# Altium schematic symbol library ICs-MOSFETDrivers.SchLib: 4 symbols
Pins are listed as number, name and electrical type; pins without a type are passive.

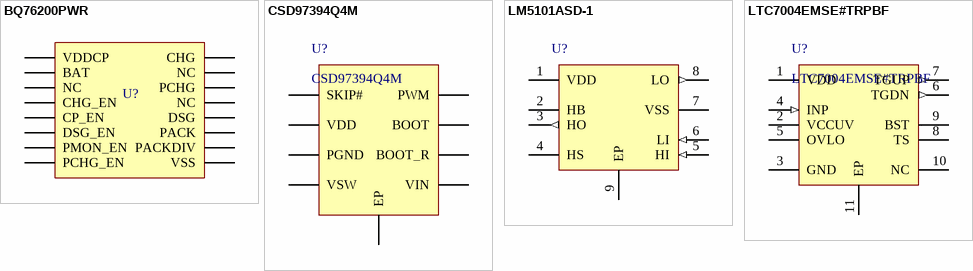
[diagram p0: symbols BQ76200PWR to LTC7004EMSE#TRPBF]

## BQ76200PWR
designator U?  (value not drawn)
Battery Management Fast high side NCH drive; Manufacturer: Texas Instruments; PartNumber: BQ76200PWR; PackageReference: TSSOP-16; Mounting Technology: Surface Mount
footprint TSSOP-16
pins: 1 VDDCP, 2 BAT, 3 NC, 4 CHG_EN, 5 CP_EN, 6 DSG_EN, 7 PMON_EN, 8 PCHG_EN, 9 VSS, 10 PACKDIV, 11 PACK, 12 DSG, 13 NC, 14 PCHG, 15 NC, 16 CHG

## CSD97394Q4M
designator U?
Manufacturer: Texas Instruments; PartNumber: CSD97394Q4M; Mounting Technology: Surface Mount; PackageReference: VSON-CLIP
footprint VSON-CLIP (SON, 18-Leads, Body 4.50x3.50mm, Pitch 0.40mm, Thermal Pad 3.95x1.99mm, IPC Medium Density)
pins: 1 SKIP#, 2 VDD, 3 PGND, 4 VSW, 5 VIN, 6 BOOT_R, 7 BOOT, 8 PWM, 9 EP

## LM5101ASD-1
designator U?
PartNumber: LM5101ASD-1; Manufacturer: Texas Instruments; PackageReference: 8-WSON; PackageDescription: 8-WDFN Exposed Pad; Mounting Technology: Surface Mount
footprint WDFN-8 (SON, 8-Leads, Body 3.00x3.00mm, Pitch 0.65mm, Thermal Pad 2.00x1.47mm, IPC Medium Density)
pins: 1 VDD (power) "Supply. This pin powers input buffers, logic and the low side gate driver output directly and the high side gate driver output through an external diode connected between this pin and BOOST (Pin 6). A low ESR ceramic bypass (See Datasheet)", 2 HB, 3 HO (out), 4 HS, 5 HI (in), 6 LI (in), 7 VSS (power), 8 LO (out), 9 EP (power) "Ground. Must be soldered to PCB ground for optimal thermal performance."

## LTC7004EMSE#TRPBF
designator U?
IC GATE DRVR HIGH-SIDE 10MSOP; Manufacturer: Linear Technology/Analog Devices; PartNumber: LTC7004EMSE#TRPBF; PackageReference: MSOP-10; Mounting Technology: Surface Mount
footprint MSOP-10 - EP (TSSOP, 10-Leads, Body 3.00x3.00mm, Pitch 0.50mm, IPC Medium Density)
pins: 1 VDD (power) "Supply. This pin powers input buffers, logic and the low side gate driver output directly and the high side gate driver output through an external diode connected between this pin and BOOST (Pin 6). A low ESR ceramic bypass (See Datasheet)", 2 VCCUV, 3 GND (power), 4 INP (in), 5 OVLO, 6 TGDN (out), 7 TGUP (out), 8 TS, 9 BST (power), 10 NC, 11 EP (power) "Ground. Must be soldered to PCB ground for optimal thermal performance."